# EAGLE library part THS4551 (library magmeter)
Low-Noise, Precision, 150-MHz Fully Differential Amplifier
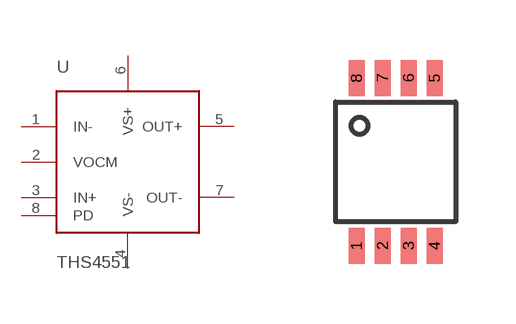
[diagram p1: symbol with the pads of VSSOP8; footprint VSSOP8]

Designator prefix U

## THS4551 (MANUFACTURER: Texas Instruments; MPN: THS4551IDGKR)  [VSSOP8]
1  IN-
2  VOCM
3  IN+
4  VS-  pwr
5  OUT+  out
6  VS+  pwr
7  OUT-  out
8  PD  in

## Footprint VSSOP8 (pad centres in mm)
VSSOP-8, 3mm x 3mm body, 0.65mm pitch
smd 0.4 x 0.9: 1 -0.975,-2.1; 2 -0.325,-2.1; 3 0.325,-2.1; 4 0.975,-2.1; 5 0.975,2.1; 6 0.325,2.1; 7 -0.325,2.1; 8 -0.975,2.1